# Altium schematic symbol library SCH - MICROCONTROLLER - LT8711.SCHLIB: 1 symbol
Pins are listed as number, name and electrical type; pins without a type are passive.

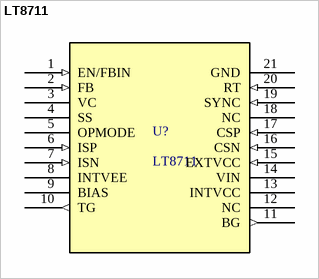
[diagram p0: symbol LT8711]

## LT8711
designator U?
Micropower Synchronous Multitopology Controller with 42V Input Capability
pins: 1 EN/FBIN (in), 2 FB (in), 3 VC, 4 SS, 5 OPMODE, 6 ISP (in), 7 ISN (in), 8 INTVEE, 9 BIAS (power), 10 TG (out), 11 BG (out), 12 NC, 13 INTVCC, 14 VIN (power), 15 EXTVCC (in), 16 CSN (in), 17 CSP (in), 18 NC, 19 SYNC (in), 20 RT (in), 21 GND (power)